# EAGLE library part PIN_HEADER_MALE_2X10_20P (library 180118 Library by matsu)
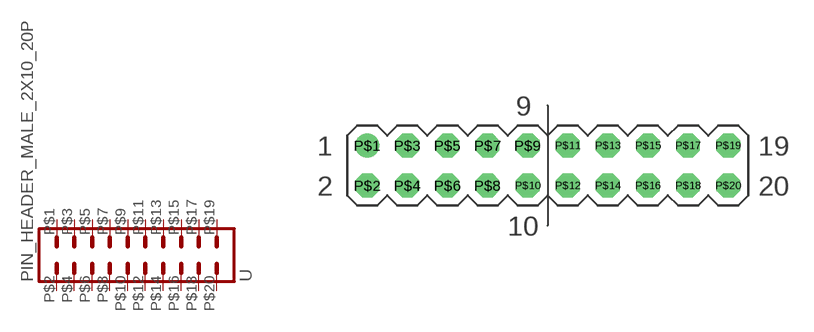
[diagram p5: symbol with the pads of PIN_HEADER_MALE_2X10_20P; footprint PIN_HEADER_MALE_2X10_20P]

Designator prefix -

## PIN_HEADER_MALE_2X10_20P  [PIN_HEADER_MALE_2X10_20P]
P$1  P$1
P$2  P$2
P$3  P$3
P$4  P$4
P$5  P$5
P$6  P$6
P$7  P$7
P$8  P$8
P$9  P$9
P$10  P$10
P$11  P$11
P$12  P$12
P$13  P$13
P$14  P$14
P$15  P$15
P$16  P$16
P$17  P$17
P$18  P$18
P$19  P$19
P$20  P$20

## Footprint PIN_HEADER_MALE_2X10_20P (pad centres in mm)
drill 1: P$1 -11.43,1.27
drill 1 octagon: P$2 -11.43,-1.27; P$3 -8.89,1.27; P$4 -8.89,-1.27; P$5 -6.35,1.27; P$6 -6.35,-1.27; P$7 -3.81,1.27; P$8 -3.81,-1.27; P$9 -1.27,1.27; P$10 -1.27,-1.27; P$11 1.27,1.27; P$12 1.27,-1.27; P$13 3.81,1.27; P$14 3.81,-1.27; P$15 6.35,1.27; P$16 6.35,-1.27; P$17 8.89,1.27; P$18 8.89,-1.27; P$19 11.43,1.27; P$20 11.43,-1.27